# EAGLE library part CONN-11 (library parts)
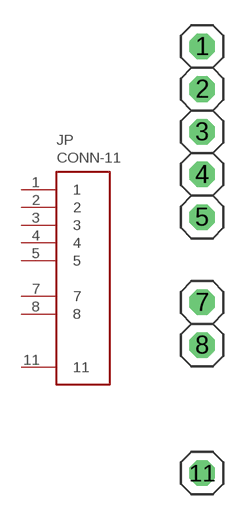
[diagram p5: symbol with the pads of 1X11-SKIP6-9-10; footprint 1X11-SKIP6-9-10]

Designator prefix JP

## CONN-11  [1X11-SKIP6-9-10]
1  1  pas
2  2  pas
3  3  pas
4  4  pas
5  5  pas
7  7  pas
8  8  pas
11  11  pas

## Footprint 1X11-SKIP6-9-10 (pad centres in mm)
drill 1.016 octagon: 1 0,0; 2 0,-2.54; 3 0,-5.08; 4 0,-7.62; 5 0,-10.16; 7 0,-15.24; 8 0,-17.78; 11 0,-25.4